# Altium footprint library CONN_TBLOCK_8P25to15P0.PcbLib: 118 footprints (part 5 of 8)
Each footprint in its own frame and in the unit in brackets; x right, y up, seen from the top. Pads: shape width x height; smd on the part's side, far side on the other; paste and mask are expansions set on the pad; w line width, h text height; cw(c..) or ccw(c..) is an arc to the next point about the centre after c.
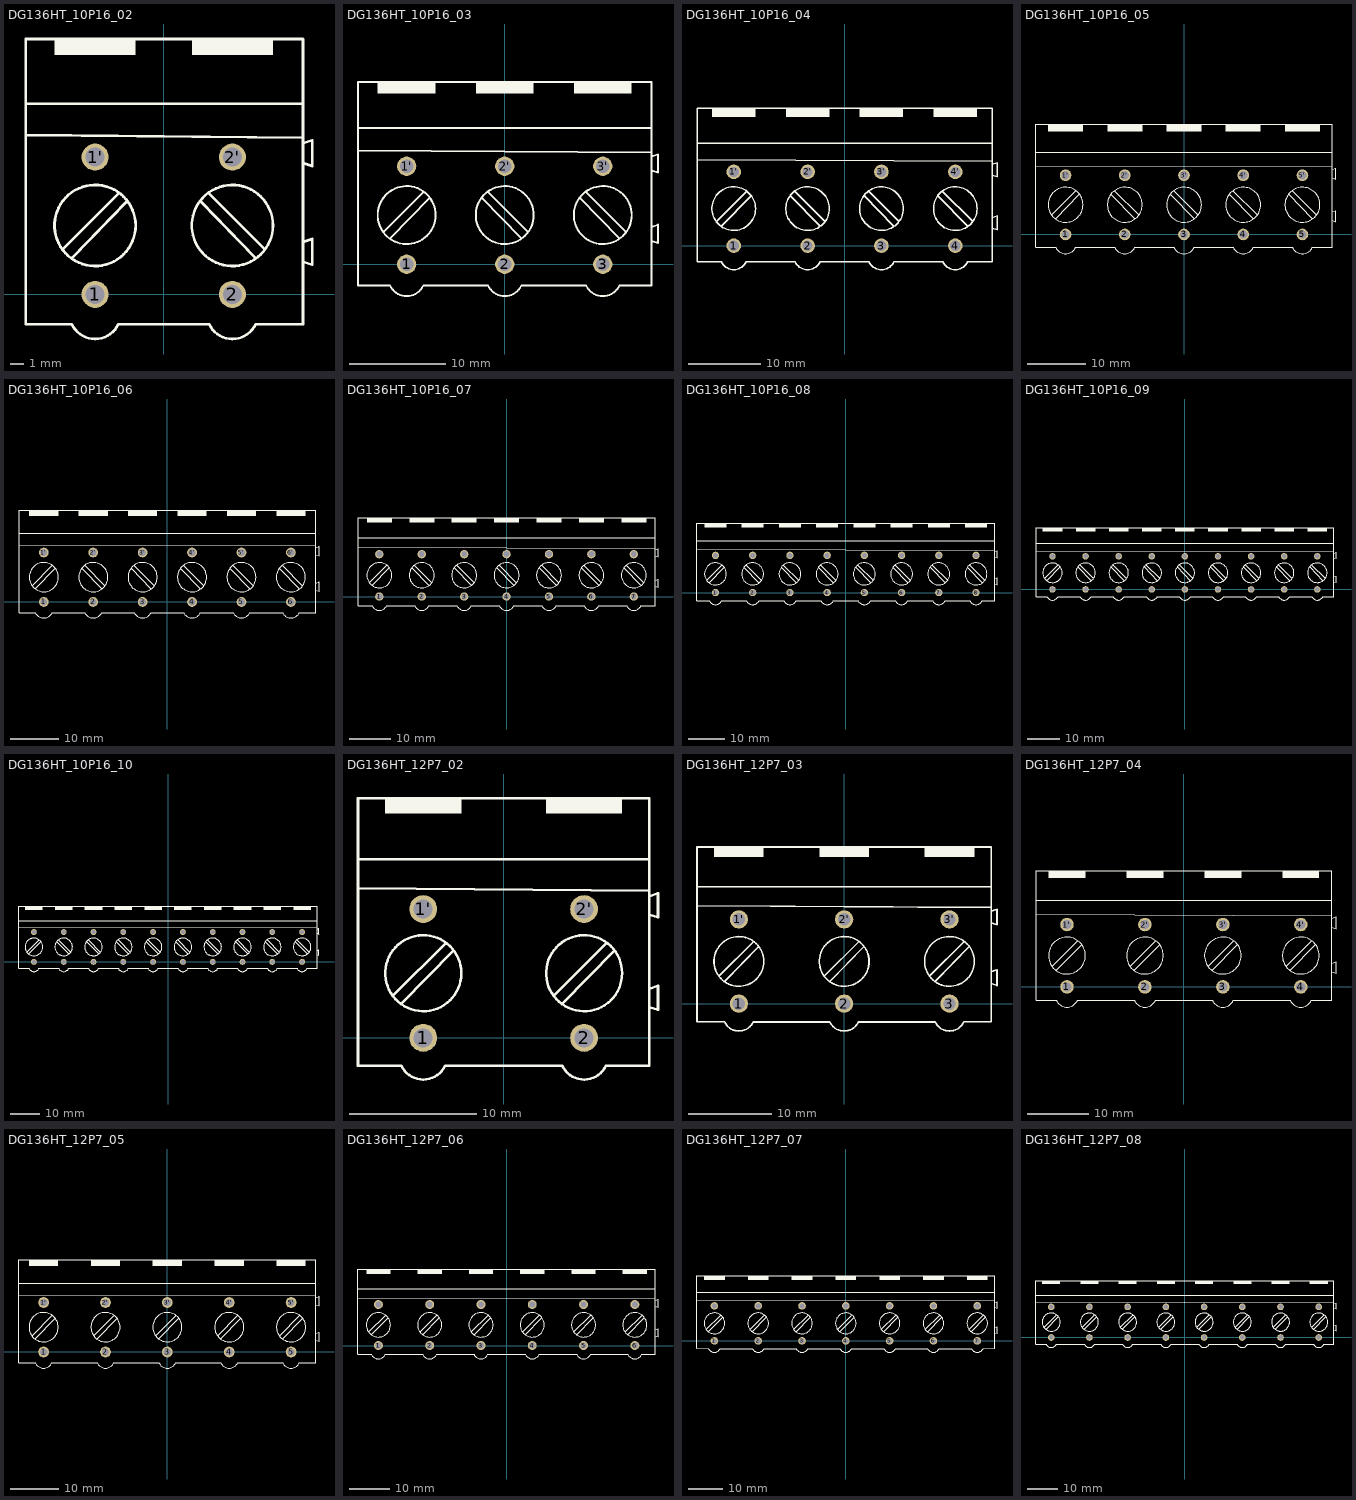
[diagram p4: the footprints below, top view; thin cyan lines are the x and y axes]

## DG136HT_10P16_02 [mm] "Terminal Block Screw, Pitch 10.16mm, 60A/300v"
height 30.8
pads (4):
  round 2 / inner round 2 / far side oval 2.8x4 hole 1.4: 1(-5.08,0) 1'(-5.08,10.16) 2(5.08,0) 2'(5.08,10.16)
Top Overlay:
  circle w0.2: c5.08,5.1 r3
  circle w0.2: c-5.08,5.1 r3
  region: 8.08,18.9 2.08,18.9 2.08,17.7 8.08,17.7
  rectangle: -8.08,17.7 -2.08,18.9
  lines w0.2: -10.2,11.8 10.3,11.6 ; -10.2,14.1 10.3,14.1 ; -7.455,3.355 -3.3,7.5 ; -6.797,2.697 -2.7,6.9 ; 2.7,6.9 6.797,2.697 ; 3.3,7.5 7.455,3.355 ; 10.308,2.424 10.98,2.2 10.98,4.1 10.308,3.876 ; 10.308,9.724 10.98,9.5 10.98,11.4 10.308,11.176 ; -10.2,-2.2 -6.802,-2.203 ccw(c-5.08,-1.4) -3.358,-2.203 3.358,-2.203 ccw(c5.08,-1.4) 6.802,-2.203 10.3,-2.2 10.3,18.9 -10.2,18.9 -10.2,-2.2
3D body "DG136HT-10.16-02P.stp": height 30.85, standoff -4.95, extent -10.185,-3.2 10.885,18.8

## DG136HT_10P16_03 [mm] "Terminal Block Screw, Pitch 10.16mm, 60A/300v"
height 29.3
pads (6):
  round 2 / inner round 2 / far side oval 2.8x4 hole 1.4: 1(-10.16,0) 1'(-10.16,10.16) 2(0,0) 2'(0,10.16) 3(10.16,0) 3'(10.16,10.16)
Top Overlay:
  circle w0.2: c-10.16,5.1 r3
  circle w0.2: c0,5.1 r3
  circle w0.2: c10.16,5.1 r3
  rectangle: -13.16,17.7 -7.16,18.9
  region: 3,18.9 -3,18.9 -3,17.7 3,17.7
  region: 13.16,18.9 7.16,18.9 7.16,17.7 13.16,17.7
  lines w0.2: -15.2,11.8 15.2,11.6 ; -15.2,14.1 15.2,14.1 ; -12.535,3.355 -8.38,7.5 ; -11.877,2.697 -7.78,6.9 ; -2.38,6.9 1.717,2.697 ; -1.78,7.5 2.375,3.355 ; 7.78,6.9 11.877,2.697 ; 8.38,7.5 12.535,3.355 ; 15.208,2.424 15.88,2.2 15.88,4.1 15.208,3.876 ; 15.208,9.724 15.88,9.5 15.88,11.4 15.208,11.176 ; -15.2,-2.2 -11.882,-2.203 ccw(c-10.16,-1.4) -8.438,-2.203 -1.722,-2.203 ccw(c0,-1.4) 1.722,-2.203 8.438,-2.203 ccw(c10.16,-1.4) 11.882,-2.203 15.2,-2.2 15.2,18.9 -15.2,18.9 -15.2,-2.2
3D body "DG136HT-10.16-03P.stp": height 30.85, standoff -4.95, extent -15.265,-3.2 15.965,18.8

## DG136HT_10P16_04 [mm] "Terminal Block Screw, Pitch 10.16mm, 60A/300v"
height 29.3
pads (8):
  round 2 / inner round 2 / far side oval 2.8x4 hole 1.4: 1(-15.24,0) 1'(-15.24,10.16) 2(-5.08,0) 2'(-5.08,10.16) 3(5.08,0) 3'(5.08,10.16) 4(15.24,0) 4'(15.24,10.16)
Top Overlay:
  circle w0.2: c-15.24,5.1 r3
  circle w0.2: c-5.08,5.1 r3
  circle w0.2: c5.08,5.1 r3
  circle w0.2: c15.24,5.1 r3
  rectangle: -18.24,17.7 -12.24,18.9
  region: -2.08,18.9 -8.08,18.9 -8.08,17.7 -2.08,17.7
  region: 8.08,18.9 2.08,18.9 2.08,17.7 8.08,17.7
  region: 18.24,18.9 12.24,18.9 12.24,17.7 18.24,17.7
  lines w0.2: -20.3,11.8 20.3,11.6 ; -20.3,14.1 20.3,14.1 ; -17.615,3.355 -13.46,7.5 ; -16.957,2.697 -12.86,6.9 ; -7.46,6.9 -3.363,2.697 ; -6.86,7.5 -2.705,3.355 ; 2.7,6.9 6.797,2.697 ; 3.3,7.5 7.455,3.355 ; 12.86,6.9 16.957,2.697 ; 13.46,7.5 17.615,3.355 ; 20.308,2.424 20.98,2.2 20.98,4.1 20.308,3.876 ; 20.308,9.724 20.98,9.5 20.98,11.4 20.308,11.176 ; -20.3,-2.2 -16.962,-2.203 ccw(c-15.24,-1.4) -13.518,-2.203 -6.802,-2.203 ccw(c-5.08,-1.4) -3.358,-2.203 3.358,-2.203 ccw(c5.08,-1.4) 6.802,-2.203 13.518,-2.203 ccw(c15.24,-1.4) 16.962,-2.203 20.3,-2.2 20.3,18.9 -20.3,18.9 -20.3,-2.2
3D body "DG136HT-10.16-02P.stp": height 30.85, standoff -4.95, extent -0.025,-3.2 21.045,18.8
3D body "DG136HT-10.16-02P.stp": height 30.85, standoff -4.95, extent -20.345,-3.2 0.725,18.8

## DG136HT_10P16_05 [mm] "Terminal Block Screw, Pitch 10.16mm, 60A/300v"
height 29.3
pads (10):
  round 2 / inner round 2 / far side oval 2.8x4 hole 1.4: 1(-20.32,0) 1'(-20.32,10.16) 2(-10.16,0) 2'(-10.16,10.16) 3(0,0) 3'(0,10.16) 4(10.16,0) 4'(10.16,10.16) 5(20.32,0) 5'(20.32,10.16)
Top Overlay:
  circle w0.2: c-20.32,5.1 r3
  circle w0.2: c-10.16,5.1 r3
  circle w0.2: c0,5.1 r3
  circle w0.2: c10.16,5.1 r3
  circle w0.2: c20.32,5.1 r3
  rectangle: -23.32,17.7 -17.32,18.9
  region: -7.16,18.9 -13.16,18.9 -13.16,17.7 -7.16,17.7
  region: 3,18.9 -3,18.9 -3,17.7 3,17.7
  region: 13.16,18.9 7.16,18.9 7.16,17.7 13.16,17.7
  region: 23.32,18.9 17.32,18.9 17.32,17.7 23.32,17.7
  lines w0.2: -25.4,11.8 25.4,11.6 ; -25.4,14.1 25.4,14.1 ; -22.695,3.355 -18.54,7.5 ; -22.037,2.697 -17.94,6.9 ; -12.54,6.9 -8.443,2.697 ; -11.94,7.5 -7.785,3.355 ; -2.38,6.9 1.717,2.697 ; -1.78,7.5 2.375,3.355 ; 7.78,6.9 11.877,2.697 ; 8.38,7.5 12.535,3.355 ; 17.94,6.9 22.037,2.697 ; 18.54,7.5 22.695,3.355 ; 25.408,2.424 26.08,2.2 26.08,4.1 25.408,3.876 ; 25.408,9.724 26.08,9.5 26.08,11.4 25.408,11.176 ; -25.4,-2.2 -22.042,-2.203 ccw(c-20.32,-1.4) -18.598,-2.203 -11.882,-2.203 ccw(c-10.16,-1.4) -8.438,-2.203 -1.722,-2.203 ccw(c0,-1.4) 1.722,-2.203 8.438,-2.203 ccw(c10.16,-1.4) 11.882,-2.203 18.598,-2.203 ccw(c20.32,-1.4) 22.042,-2.203 25.4,-2.2 25.4,18.9 -25.4,18.9 -25.4,-2.2
3D body "DG136HT-10.16-03P.stp": height 30.85, standoff -4.95, extent -5.105,-3.2 26.125,18.8
3D body "DG136HT-10.16-02P.stp": height 30.85, standoff -4.95, extent -25.425,-3.2 -4.355,18.8

## DG136HT_10P16_06 [mm] "Terminal Block Screw, Pitch 10.16mm, 60A/300v"
height 29.3
pads (12):
  round 2 / inner round 2 / far side oval 2.8x4 hole 1.4: 1(-25.4,0) 1'(-25.4,10.16) 2(-15.24,0) 2'(-15.24,10.16) 3(-5.08,0) 3'(-5.08,10.16) 4(5.08,0) 4'(5.08,10.16) 5(15.24,0) 5'(15.24,10.16) 6(25.4,0) 6'(25.4,10.16)
Top Overlay:
  circle w0.2: c25.4,5.1 r3
  circle w0.2: c15.24,5.1 r3
  circle w0.2: c5.08,5.1 r3
  circle w0.2: c-5.08,5.1 r3
  circle w0.2: c-15.24,5.1 r3
  circle w0.2: c-25.4,5.1 r3
  region: 28.4,18.9 22.4,18.9 22.4,17.7 28.4,17.7
  region: 18.24,18.9 12.24,18.9 12.24,17.7 18.24,17.7
  region: 8.08,18.9 2.08,18.9 2.08,17.7 8.08,17.7
  region: -2.08,18.9 -8.08,18.9 -8.08,17.7 -2.08,17.7
  region: -12.24,18.9 -18.24,18.9 -18.24,17.7 -12.24,17.7
  rectangle: -28.4,17.7 -22.4,18.9
  lines w0.2: -30.5,11.8 30.5,11.6 ; -30.5,14.1 30.5,14.1 ; -27.775,3.355 -23.62,7.5 ; -27.117,2.697 -23.02,6.9 ; -17.62,6.9 -13.523,2.697 ; -17.02,7.5 -12.865,3.355 ; -7.46,6.9 -3.363,2.697 ; -6.86,7.5 -2.705,3.355 ; 2.7,6.9 6.797,2.697 ; 3.3,7.5 7.455,3.355 ; 12.86,6.9 16.957,2.697 ; 13.46,7.5 17.615,3.355 ; 23.02,6.9 27.117,2.697 ; 23.62,7.5 27.775,3.355 ; 30.508,2.424 31.18,2.2 31.18,4.1 30.508,3.876 ; 30.508,9.724 31.18,9.5 31.18,11.4 30.508,11.176 ; -30.5,-2.2 -30.5,18.9 30.5,18.9 30.5,-2.2 27.122,-2.203 cw(c25.4,-1.4) 23.678,-2.203 16.962,-2.203 cw(c15.24,-1.4) 13.518,-2.203 6.802,-2.203 cw(c5.08,-1.4) 3.358,-2.203 -3.358,-2.203 cw(c-5.08,-1.4) -6.802,-2.203 -13.518,-2.203 cw(c-15.24,-1.4) -16.962,-2.203 -23.678,-2.203 cw(c-25.4,-1.4) -27.122,-2.203 -30.5,-2.2
3D body "DG136HT-10.16-03P.stp": height 30.85, standoff -4.95, extent -30.505,-3.2 0.725,18.8
3D body "DG136HT-10.16-03P.stp": height 30.85, standoff -4.95, extent -0.025,-3.2 31.205,18.8

## DG136HT_10P16_07 [mm] "Terminal Block Screw, Pitch 10.16mm, 60A/300v"
height 29.3
pads (14):
  round 2 / inner round 2 / far side oval 2.8x4 hole 1.4: 1(-30.48,0) 1'(-30.48,10.16) 2(-20.32,0) 2'(-20.32,10.16) 3(-10.16,0) 3'(-10.16,10.16) 4(0,0) 4'(0,10.16) 5(10.16,0) 5'(10.16,10.16) 6(20.32,0) 6'(20.32,10.16) 7(30.48,0) 7'(30.48,10.16)
Top Overlay:
  circle w0.2: c30.48,5.1 r3
  circle w0.2: c20.32,5.1 r3
  circle w0.2: c10.16,5.1 r3
  circle w0.2: c0,5.1 r3
  circle w0.2: c-10.16,5.1 r3
  circle w0.2: c-20.32,5.1 r3
  circle w0.2: c-30.48,5.1 r3
  region: 33.48,18.9 27.48,18.9 27.48,17.7 33.48,17.7
  region: 23.32,18.9 17.32,18.9 17.32,17.7 23.32,17.7
  region: 13.16,18.9 7.16,18.9 7.16,17.7 13.16,17.7
  region: 3,18.9 -3,18.9 -3,17.7 3,17.7
  region: -7.16,18.9 -13.16,18.9 -13.16,17.7 -7.16,17.7
  region: -17.32,18.9 -23.32,18.9 -23.32,17.7 -17.32,17.7
  rectangle: -33.48,17.7 -27.48,18.9
  lines w0.2: -35.6,11.8 35.6,11.6 ; -35.6,14.1 35.6,14.1 ; -32.855,3.355 -28.7,7.5 ; -32.197,2.697 -28.1,6.9 ; -22.7,6.9 -18.603,2.697 ; -22.1,7.5 -17.945,3.355 ; -12.54,6.9 -8.443,2.697 ; -11.94,7.5 -7.785,3.355 ; -2.38,6.9 1.717,2.697 ; -1.78,7.5 2.375,3.355 ; 7.78,6.9 11.877,2.697 ; 8.38,7.5 12.535,3.355 ; 17.94,6.9 22.037,2.697 ; 18.54,7.5 22.695,3.355 ; 28.1,6.9 32.197,2.697 ; 28.7,7.5 32.855,3.355 ; 35.608,2.424 36.28,2.2 36.28,4.1 35.608,3.876 ; 35.608,9.724 36.28,9.5 36.28,11.4 35.608,11.176 ; -35.6,-2.2 -35.6,18.9 35.6,18.9 35.6,-2.2 32.202,-2.203 cw(c30.48,-1.4) 28.758,-2.203 22.042,-2.203 cw(c20.32,-1.4) 18.598,-2.203 11.882,-2.203 cw(c10.16,-1.4) 8.438,-2.203 1.722,-2.203 cw(c0,-1.4) -1.722,-2.203 -8.438,-2.203 cw(c-10.16,-1.4) -11.882,-2.203 -18.598,-2.203 cw(c-20.32,-1.4) -22.042,-2.203 -28.758,-2.203 cw(c-30.48,-1.4) -32.202,-2.203 -35.6,-2.2
3D body "DG136HT-10.16-03P.stp": height 30.85, standoff -4.95, extent -15.265,-3.2 15.965,18.8
3D body "DG136HT-10.16-02P.stp": height 30.85, standoff -4.95, extent -35.585,-3.2 -14.515,18.8
3D body "DG136HT-10.16-02P.stp": height 30.85, standoff -4.95, extent 15.215,-3.2 36.285,18.8

## DG136HT_10P16_08 [mm] "Terminal Block Screw, Pitch 10.16mm, 60A/300v"
height 29.3
pads (16):
  round 2 / inner round 2 / far side oval 2.8x4 hole 1.4: 1(-35.56,0) 1'(-35.56,10.16) 2(-25.4,0) 2'(-25.4,10.16) 3(-15.24,0) 3'(-15.24,10.16) 4(-5.08,0) 4'(-5.08,10.16) 5(5.08,0) 5'(5.08,10.16) 6(15.24,0) 6'(15.24,10.16) 7(25.4,0) 7'(25.4,10.16) 8(35.56,0) 8'(35.56,10.16)
Top Overlay:
  circle w0.2: c-35.56,5.1 r3
  circle w0.2: c-25.4,5.1 r3
  circle w0.2: c-15.24,5.1 r3
  circle w0.2: c-5.08,5.1 r3
  circle w0.2: c5.08,5.1 r3
  circle w0.2: c15.24,5.1 r3
  circle w0.2: c25.4,5.1 r3
  circle w0.2: c35.56,5.1 r3
  rectangle: -38.56,17.7 -32.56,18.9
  region: -22.4,18.9 -28.4,18.9 -28.4,17.7 -22.4,17.7
  region: -12.24,18.9 -18.24,18.9 -18.24,17.7 -12.24,17.7
  region: -2.08,18.9 -8.08,18.9 -8.08,17.7 -2.08,17.7
  region: 8.08,18.9 2.08,18.9 2.08,17.7 8.08,17.7
  region: 18.24,18.9 12.24,18.9 12.24,17.7 18.24,17.7
  region: 28.4,18.9 22.4,18.9 22.4,17.7 28.4,17.7
  region: 38.56,18.9 32.56,18.9 32.56,17.7 38.56,17.7
  lines w0.2: -40.6,11.8 40.6,11.6 ; -40.6,14.1 40.6,14.1 ; -37.935,3.355 -33.78,7.5 ; -37.277,2.697 -33.18,6.9 ; -27.78,6.9 -23.683,2.697 ; -27.18,7.5 -23.025,3.355 ; -17.62,6.9 -13.523,2.697 ; -17.02,7.5 -12.865,3.355 ; -7.46,6.9 -3.363,2.697 ; -6.86,7.5 -2.705,3.355 ; 2.7,6.9 6.797,2.697 ; 3.3,7.5 7.455,3.355 ; 12.86,6.9 16.957,2.697 ; 13.46,7.5 17.615,3.355 ; 23.02,6.9 27.117,2.697 ; 23.62,7.5 27.775,3.355 ; 33.18,6.9 37.277,2.697 ; 33.78,7.5 37.935,3.355 ; 37.242,-2.203 40.6,-2.2 40.6,18.9 -40.6,18.9 -40.6,-2.2 -37.282,-2.203 ccw(c-35.56,-1.4) -33.838,-2.203 -27.122,-2.203 ccw(c-25.4,-1.4) -23.678,-2.203 -16.962,-2.203 ccw(c-15.24,-1.4) -13.518,-2.203 -6.802,-2.203 ccw(c-5.08,-1.4) -3.358,-2.203 3.358,-2.203 ccw(c5.08,-1.4) 6.802,-2.203 13.518,-2.203 ccw(c15.24,-1.4) 16.962,-2.203 23.678,-2.203 ccw(c25.4,-1.4) 27.122,-2.203 33.838,-2.203 ccw(c35.56,-1.4) 37.282,-2.203 ; 40.608,2.424 41.28,2.2 41.28,4.1 40.608,3.876 ; 40.608,9.724 41.28,9.5 41.28,11.4 40.608,11.176
3D body "DG136HT-10.16-03P.stp": height 30.85, standoff -4.95, extent 10.135,-3.2 41.365,18.8
3D body "DG136HT-10.16-02P.stp": height 30.85, standoff -4.95, extent -40.665,-3.2 -19.595,18.8
3D body "DG136HT-10.16-03P.stp": height 30.85, standoff -4.95, extent -20.345,-3.2 10.885,18.8

## DG136HT_10P16_09 [mm] "Terminal Block Screw, Pitch 10.16mm, 60A/300v"
height 29.3
pads (18):
  round 2 / inner round 2 / far side oval 2.8x4 hole 1.4: 1(-40.64,0) 1'(-40.64,10.16) 2(-30.48,0) 2'(-30.48,10.16) 3(-20.32,0) 3'(-20.32,10.16) 4(-10.16,0) 4'(-10.16,10.16) 5(0,0) 5'(0,10.16) 6(10.16,0) 6'(10.16,10.16) 7(20.32,0) 7'(20.32,10.16) 8(30.48,0) 8'(30.48,10.16) 9(40.64,0) 9'(40.64,10.16)
Top Overlay:
  circle w0.2: c40.64,5.1 r3
  circle w0.2: c30.48,5.1 r3
  circle w0.2: c20.32,5.1 r3
  circle w0.2: c10.16,5.1 r3
  circle w0.2: c0,5.1 r3
  circle w0.2: c-10.16,5.1 r3
  circle w0.2: c-20.32,5.1 r3
  circle w0.2: c-30.48,5.1 r3
  circle w0.2: c-40.64,5.1 r3
  region: 43.64,18.9 37.64,18.9 37.64,17.7 43.64,17.7
  region: 33.48,18.9 27.48,18.9 27.48,17.7 33.48,17.7
  region: 23.32,18.9 17.32,18.9 17.32,17.7 23.32,17.7
  region: 13.16,18.9 7.16,18.9 7.16,17.7 13.16,17.7
  region: 3,18.9 -3,18.9 -3,17.7 3,17.7
  region: -7.16,18.9 -13.16,18.9 -13.16,17.7 -7.16,17.7
  region: -17.32,18.9 -23.32,18.9 -23.32,17.7 -17.32,17.7
  region: -27.48,18.9 -33.48,18.9 -33.48,17.7 -27.48,17.7
  rectangle: -43.64,17.7 -37.64,18.9
  lines w0.2: -45.7,11.8 45.7,11.6 ; -45.7,14.1 45.7,14.1 ; -43.015,3.355 -38.86,7.5 ; -42.357,2.697 -38.26,6.9 ; -32.86,6.9 -28.763,2.697 ; -32.26,7.5 -28.105,3.355 ; -22.7,6.9 -18.603,2.697 ; -22.1,7.5 -17.945,3.355 ; -12.54,6.9 -8.443,2.697 ; -11.94,7.5 -7.785,3.355 ; -2.38,6.9 1.717,2.697 ; -1.78,7.5 2.375,3.355 ; 7.78,6.9 11.877,2.697 ; 8.38,7.5 12.535,3.355 ; 17.94,6.9 22.037,2.697 ; 18.54,7.5 22.695,3.355 ; 28.1,6.9 32.197,2.697 ; 28.7,7.5 32.855,3.355 ; 38.26,6.9 42.357,2.697 ; 38.86,7.5 43.015,3.355 ; 42.342,-2.203 45.7,-2.2 45.7,18.9 -45.7,18.9 -45.7,-2.2 -42.362,-2.203 ccw(c-40.64,-1.4) -38.918,-2.203 -32.202,-2.203 ccw(c-30.48,-1.4) -28.758,-2.203 -22.042,-2.203 ccw(c-20.32,-1.4) -18.598,-2.203 -11.882,-2.203 ccw(c-10.16,-1.4) -8.438,-2.203 -1.722,-2.203 ccw(c0,-1.4) 1.722,-2.203 8.438,-2.203 ccw(c10.16,-1.4) 11.882,-2.203 18.598,-2.203 ccw(c20.32,-1.4) 22.042,-2.203 28.758,-2.203 ccw(c30.48,-1.4) 32.202,-2.203 38.918,-2.203 ccw(c40.64,-1.4) 42.362,-2.203 ; 45.708,2.424 46.38,2.2 46.38,4.1 45.708,3.876 ; 45.708,9.724 46.38,9.5 46.38,11.4 45.708,11.176
3D body "DG136HT-10.16-03P.stp": height 30.85, standoff -4.95, extent 15.215,-3.2 46.445,18.8
3D body "DG136HT-10.16-03P.stp": height 30.85, standoff -4.95, extent -15.265,-3.2 15.965,18.8
3D body "DG136HT-10.16-03P.stp": height 30.85, standoff -4.95, extent -45.745,-3.2 -14.515,18.8

## DG136HT_10P16_10 [mm] "Terminal Block Screw, Pitch 10.16mm, 60A/300v"
height 29.3
pads (20):
  round 2 / inner round 2 / far side oval 2.8x4 hole 1.4: 1(-45.72,0) 1'(-45.72,10.16) 2(-35.56,0) 2'(-35.56,10.16) 3(-25.4,0) 3'(-25.4,10.16) 4(-15.24,0) 4'(-15.24,10.16) 5(-5.08,0) 5'(-5.08,10.16) 6(5.08,0) 6'(5.08,10.16) 7(15.24,0) 7'(15.24,10.16) 8(25.4,0) 8'(25.4,10.16) 9(35.56,0) 9'(35.56,10.16) 10(45.72,0) 10'(45.72,10.16)
Top Overlay:
  circle w0.2: c45.72,5.1 r3
  circle w0.2: c35.56,5.1 r3
  circle w0.2: c25.4,5.1 r3
  circle w0.2: c15.24,5.1 r3
  circle w0.2: c5.08,5.1 r3
  circle w0.2: c-5.08,5.1 r3
  circle w0.2: c-15.24,5.1 r3
  circle w0.2: c-25.4,5.1 r3
  circle w0.2: c-35.56,5.1 r3
  circle w0.2: c-45.72,5.1 r3
  region: 48.72,18.9 42.72,18.9 42.72,17.7 48.72,17.7
  region: 38.56,18.9 32.56,18.9 32.56,17.7 38.56,17.7
  region: 28.4,18.9 22.4,18.9 22.4,17.7 28.4,17.7
  region: 18.24,18.9 12.24,18.9 12.24,17.7 18.24,17.7
  region: 8.08,18.9 2.08,18.9 2.08,17.7 8.08,17.7
  region: -2.08,18.9 -8.08,18.9 -8.08,17.7 -2.08,17.7
  region: -12.24,18.9 -18.24,18.9 -18.24,17.7 -12.24,17.7
  region: -22.4,18.9 -28.4,18.9 -28.4,17.7 -22.4,17.7
  region: -32.56,18.9 -38.56,18.9 -38.56,17.7 -32.56,17.7
  rectangle: -48.72,17.7 -42.72,18.9
  lines w0.2: -50.8,11.8 50.8,11.6 ; -50.8,14.1 50.8,14.1 ; -48.095,3.355 -43.94,7.5 ; -47.437,2.697 -43.34,6.9 ; -37.94,6.9 -33.843,2.697 ; -37.34,7.5 -33.185,3.355 ; -27.78,6.9 -23.683,2.697 ; -27.18,7.5 -23.025,3.355 ; -17.62,6.9 -13.523,2.697 ; -17.02,7.5 -12.865,3.355 ; -7.46,6.9 -3.363,2.697 ; -6.86,7.5 -2.705,3.355 ; 2.7,6.9 6.797,2.697 ; 3.3,7.5 7.455,3.355 ; 12.86,6.9 16.957,2.697 ; 13.46,7.5 17.615,3.355 ; 23.02,6.9 27.117,2.697 ; 23.62,7.5 27.775,3.355 ; 33.18,6.9 37.277,2.697 ; 33.78,7.5 37.935,3.355 ; 43.34,6.9 47.437,2.697 ; 43.94,7.5 48.095,3.355 ; 50.808,2.424 51.48,2.2 51.48,4.1 50.808,3.876 ; 50.808,9.724 51.48,9.5 51.48,11.4 50.808,11.176 ; -50.8,-2.2 -50.8,18.9 50.8,18.9 50.8,-2.2 47.442,-2.203 cw(c45.72,-1.4) 43.998,-2.203 37.282,-2.203 cw(c35.56,-1.4) 33.838,-2.203 27.122,-2.203 cw(c25.4,-1.4) 23.678,-2.203 16.962,-2.203 cw(c15.24,-1.4) 13.518,-2.203 6.802,-2.203 cw(c5.08,-1.4) 3.358,-2.203 -3.358,-2.203 cw(c-5.08,-1.4) -6.802,-2.203 -13.518,-2.203 cw(c-15.24,-1.4) -16.962,-2.203 -23.678,-2.203 cw(c-25.4,-1.4) -27.122,-2.203 -33.838,-2.203 cw(c-35.56,-1.4) -37.282,-2.203 -43.998,-2.203 cw(c-45.72,-1.4) -47.442,-2.203 -50.8,-2.2
3D body "DG136HT-10.16-02P.stp": height 30.85, standoff -4.95, extent -50.825,-3.2 -29.755,18.8
3D body "DG136HT-10.16-03P.stp": height 30.85, standoff -4.95, extent -30.505,-3.2 0.725,18.8
3D body "DG136HT-10.16-02P.stp": height 30.85, standoff -4.95, extent -0.025,-3.2 21.045,18.8
3D body "DG136HT-10.16-03P.stp": height 30.85, standoff -4.95, extent 20.295,-3.2 51.525,18.8

## DG136HT_12P7_02 [mm] "Terminal Block Screw, Pitch 12.7mm, 60A/600v"
height 30.8
pads (4):
  round 2.2 / inner round 2.2 / far side oval 3x4 hole 1.5: 1(-6.35,0) 1'(-6.35,10.16) 2(6.35,0) 2'(6.35,10.16)
Top Overlay:
  circle w0.2: c-6.35,5.1 r3
  circle w0.2: c6.35,5.1 r3
  rectangle: -9.35,17.7 -3.35,18.9
  rectangle: 3.35,17.7 9.35,18.9
  lines w0.2: -11.5,11.8 11.5,11.6 ; -11.5,14.1 11.5,14.1 ; -8.725,3.355 -4.57,7.5 ; -8.072,-2.203 ccw(c-6.35,-1.4) -4.628,-2.203 4.628,-2.203 ccw(c6.35,-1.4) 8.072,-2.203 11.5,-2.2 11.5,18.9 -11.5,18.9 -11.5,-2.2 -8.072,-2.2 ; -8.067,2.697 -3.97,6.9 ; 3.975,3.355 8.13,7.5 ; 4.633,2.697 8.73,6.9 ; 11.508,2.424 12.18,2.2 12.18,4.1 11.508,3.876 ; 11.508,9.724 12.18,9.5 12.18,11.4 11.508,11.176
3D body "DG136HT-12.70-02P.stp": height 30.8, standoff -5, extent -11.425,-3.2 12.185,18.8

## DG136HT_12P7_03 [mm] "Terminal Block Screw, Pitch 12.7mm, 60A/600v"
height 30.8
pads (6):
  round 2.2 / inner round 2.2 / far side oval 3x4 hole 1.5: 1(-12.7,0) 1'(-12.7,10.16) 2(0,0) 2'(0,10.16) 3(12.7,0) 3'(12.7,10.16)
Top Overlay:
  circle w0.2: c-12.7,5.1 r3
  circle w0.2: c0,5.1 r3
  circle w0.2: c12.7,5.1 r3
  rectangle: -15.7,17.7 -9.7,18.9
  rectangle: -3,17.7 3,18.9
  rectangle: 9.7,17.7 15.7,18.9
  lines w0.2: -17.75,11.8 17.75,11.6 ; -17.75,14.1 17.75,14.1 ; -15.075,3.355 -10.92,7.5 ; -14.417,2.697 -10.32,6.9 ; -2.375,3.355 1.78,7.5 ; -1.717,2.697 2.38,6.9 ; 10.325,3.355 14.48,7.5 ; 10.983,2.697 15.08,6.9 ; 17.758,2.424 18.43,2.2 18.43,4.1 17.758,3.876 ; 17.758,9.724 18.43,9.5 18.43,11.4 17.758,11.176 ; -17.75,-2.2 -17.75,18.9 17.75,18.9 17.75,-2.2 14.422,-2.203 cw(c12.7,-1.4) 10.978,-2.203 1.722,-2.203 cw(c0,-1.4) -1.722,-2.203 -10.978,-2.203 cw(c-12.7,-1.4) -14.422,-2.203 -17.75,-2.2
3D body "DG136HT-12.70-03P.stp": height 30.8, standoff -5, extent -17.775,-3.2 18.535,18.8

## DG136HT_12P7_04 [mm] "Terminal Block Screw, Pitch 12.7mm, 60A/600v"
height 30.8
pads (8):
  round 2.2 / inner round 2.2 / far side oval 3x4 hole 1.5: 1(-19.05,0) 1'(-19.05,10.16) 2(-6.35,0) 2'(-6.35,10.16) 3(6.35,0) 3'(6.35,10.16) 4(19.05,0) 4'(19.05,10.16)
Top Overlay:
  circle w0.2: c19.05,5.1 r3
  circle w0.2: c6.35,5.1 r3
  circle w0.2: c-6.35,5.1 r3
  circle w0.2: c-19.05,5.1 r3
  rectangle: 16.05,17.7 22.05,18.9
  rectangle: 3.35,17.7 9.35,18.9
  rectangle: -9.35,17.7 -3.35,18.9
  rectangle: -22.05,17.7 -16.05,18.9
  lines w0.2: -24.1,11.8 24.1,11.6 ; -24.1,14.1 24.1,14.1 ; -21.425,3.355 -17.27,7.5 ; -20.767,2.697 -16.67,6.9 ; -8.725,3.355 -4.57,7.5 ; -8.067,2.697 -3.97,6.9 ; 3.975,3.355 8.13,7.5 ; 4.633,2.697 8.73,6.9 ; 16.675,3.355 20.83,7.5 ; 17.333,2.697 21.43,6.9 ; 24.108,2.424 24.78,2.2 24.78,4.1 24.108,3.876 ; 24.108,9.724 24.78,9.5 24.78,11.4 24.108,11.176 ; -24.1,-2.2 -20.772,-2.203 ccw(c-19.05,-1.4) -17.328,-2.203 -8.072,-2.203 ccw(c-6.35,-1.4) -4.628,-2.203 4.628,-2.203 ccw(c6.35,-1.4) 8.072,-2.203 17.328,-2.203 ccw(c19.05,-1.4) 20.772,-2.203 24.1,-2.2 24.1,18.9 -24.1,18.9 -24.1,-2.2
3D body "DG136HT-12.70-02P.stp": height 30.8, standoff -5, extent -24.125,-3.2 -0.515,18.8
3D body "DG136HT-12.70-02P.stp": height 30.8, standoff -5, extent 1.275,-3.2 24.885,18.8

## DG136HT_12P7_05 [mm] "Terminal Block Screw, Pitch 12.7mm, 60A/600v"
height 30.8
pads (10):
  round 2.2 / inner round 2.2 / far side oval 3x4 hole 1.5: 1(-25.4,0) 1'(-25.4,10.16) 2(-12.7,0) 2'(-12.7,10.16) 3(0,0) 3'(0,10.16) 4(12.7,0) 4'(12.7,10.16) 5(25.4,0) 5'(25.4,10.16)
Top Overlay:
  circle w0.2: c25.4,5.1 r3
  circle w0.2: c12.7,5.1 r3
  circle w0.2: c0,5.1 r3
  circle w0.2: c-12.7,5.1 r3
  circle w0.2: c-25.4,5.1 r3
  rectangle: 22.4,17.7 28.4,18.9
  rectangle: 9.7,17.7 15.7,18.9
  rectangle: -3,17.7 3,18.9
  rectangle: -15.7,17.7 -9.7,18.9
  rectangle: -28.4,17.7 -22.4,18.9
  lines w0.2: -30.45,11.8 30.45,11.6 ; -30.45,14.1 30.45,14.1 ; -27.775,3.355 -23.62,7.5 ; -27.117,2.697 -23.02,6.9 ; -15.075,3.355 -10.92,7.5 ; -14.417,2.697 -10.32,6.9 ; -2.375,3.355 1.78,7.5 ; -1.717,2.697 2.38,6.9 ; 10.325,3.355 14.48,7.5 ; 10.983,2.697 15.08,6.9 ; 23.025,3.355 27.18,7.5 ; 23.683,2.697 27.78,6.9 ; 30.458,2.424 31.13,2.2 31.13,4.1 30.458,3.876 ; 30.458,9.724 31.13,9.5 31.13,11.4 30.458,11.176 ; -30.45,-2.2 -27.122,-2.203 ccw(c-25.4,-1.4) -23.678,-2.203 -14.422,-2.203 ccw(c-12.7,-1.4) -10.978,-2.203 -1.722,-2.203 ccw(c0,-1.4) 1.722,-2.203 10.978,-2.203 ccw(c12.7,-1.4) 14.422,-2.203 23.678,-2.203 ccw(c25.4,-1.4) 27.122,-2.203 30.45,-2.2 30.45,18.9 -30.45,18.9 -30.45,-2.2
3D body "DG136HT-12.70-02P.stp": height 30.8, standoff -5, extent -30.475,-3.2 -6.865,18.8
3D body "DG136HT-12.70-03P.stp": height 30.8, standoff -5, extent -5.075,-3.2 31.235,18.8

## DG136HT_12P7_06 [mm] "Terminal Block Screw, Pitch 12.7mm, 60A/600v"
height 30.8
pads (12):
  round 2.2 / inner round 2.2 / far side oval 3x4 hole 1.5: 1(-31.75,0) 1'(-31.75,10.16) 2(-19.05,0) 2'(-19.05,10.16) 3(-6.35,0) 3'(-6.35,10.16) 4(6.35,0) 4'(6.35,10.16) 5(19.05,0) 5'(19.05,10.16) 6(31.75,0) 6'(31.75,10.16)
Top Overlay:
  circle w0.2: c-31.75,5.1 r3
  circle w0.2: c-19.05,5.1 r3
  circle w0.2: c-6.35,5.1 r3
  circle w0.2: c6.35,5.1 r3
  circle w0.2: c19.05,5.1 r3
  circle w0.2: c31.75,5.1 r3
  rectangle: -34.75,17.7 -28.75,18.9
  rectangle: -22.05,17.7 -16.05,18.9
  rectangle: -9.35,17.7 -3.35,18.9
  rectangle: 3.35,17.7 9.35,18.9
  rectangle: 16.05,17.7 22.05,18.9
  rectangle: 28.75,17.7 34.75,18.9
  lines w0.2: -36.8,11.8 36.8,11.6 ; -36.8,14.1 36.8,14.1 ; -34.125,3.355 -29.97,7.5 ; -33.467,2.697 -29.37,6.9 ; -21.425,3.355 -17.27,7.5 ; -20.767,2.697 -16.67,6.9 ; -8.725,3.355 -4.57,7.5 ; -8.067,2.697 -3.97,6.9 ; 3.975,3.355 8.13,7.5 ; 4.633,2.697 8.73,6.9 ; 16.675,3.355 20.83,7.5 ; 17.333,2.697 21.43,6.9 ; 29.375,3.355 33.53,7.5 ; 30.033,2.697 34.13,6.9 ; 36.808,2.424 37.48,2.2 37.48,4.1 36.808,3.876 ; 36.808,9.724 37.48,9.5 37.48,11.4 36.808,11.176 ; -36.8,-2.2 -36.8,18.9 36.8,18.9 36.8,-2.2 33.472,-2.203 cw(c31.75,-1.4) 30.028,-2.203 20.772,-2.203 cw(c19.05,-1.4) 17.328,-2.203 8.072,-2.203 cw(c6.35,-1.4) 4.628,-2.203 -4.628,-2.203 cw(c-6.35,-1.4) -8.072,-2.203 -17.328,-2.203 cw(c-19.05,-1.4) -20.772,-2.203 -30.028,-2.203 cw(c-31.75,-1.4) -33.472,-2.203 -36.8,-2.2
3D body "DG136HT-12.70-03P.stp": height 30.8, standoff -5, extent 1.275,-3.2 37.585,18.8
3D body "DG136HT-12.70-03P.stp": height 30.8, standoff -5, extent -36.825,-3.2 -0.515,18.8

## DG136HT_12P7_07 [mm] "Terminal Block Screw, Pitch 12.7mm, 60A/600v"
height 30.8
pads (14):
  round 2.2 / inner round 2.2 / far side oval 3x4 hole 1.5: 1(-38.1,0) 1'(-38.1,10.16) 2(-25.4,0) 2'(-25.4,10.16) 3(-12.7,0) 3'(-12.7,10.16) 4(0,0) 4'(0,10.16) 5(12.7,0) 5'(12.7,10.16) 6(25.4,0) 6'(25.4,10.16) 7(38.1,0) 7'(38.1,10.16)
Top Overlay:
  circle w0.2: c-38.1,5.1 r3
  circle w0.2: c-25.4,5.1 r3
  circle w0.2: c-12.7,5.1 r3
  circle w0.2: c0,5.1 r3
  circle w0.2: c12.7,5.1 r3
  circle w0.2: c25.4,5.1 r3
  circle w0.2: c38.1,5.1 r3
  rectangle: -41.1,17.7 -35.1,18.9
  rectangle: -28.4,17.7 -22.4,18.9
  rectangle: -15.7,17.7 -9.7,18.9
  rectangle: -3,17.7 3,18.9
  rectangle: 9.7,17.7 15.7,18.9
  rectangle: 22.4,17.7 28.4,18.9
  rectangle: 35.1,17.7 41.1,18.9
  lines w0.2: -43.15,11.8 43.15,11.6 ; -43.15,14.1 43.15,14.1 ; -40.475,3.355 -36.32,7.5 ; -39.817,2.697 -35.72,6.9 ; -27.775,3.355 -23.62,7.5 ; -27.117,2.697 -23.02,6.9 ; -15.075,3.355 -10.92,7.5 ; -14.417,2.697 -10.32,6.9 ; -2.375,3.355 1.78,7.5 ; -1.717,2.697 2.38,6.9 ; 10.325,3.355 14.48,7.5 ; 10.983,2.697 15.08,6.9 ; 23.025,3.355 27.18,7.5 ; 23.683,2.697 27.78,6.9 ; 35.725,3.355 39.88,7.5 ; 36.383,2.697 40.48,6.9 ; 43.158,2.424 43.83,2.2 43.83,4.1 43.158,3.876 ; 43.158,9.724 43.83,9.5 43.83,11.4 43.158,11.176 ; -43.15,-2.2 -43.15,18.9 43.15,18.9 43.15,-2.2 39.822,-2.203 cw(c38.1,-1.4) 36.378,-2.203 27.122,-2.203 cw(c25.4,-1.4) 23.678,-2.203 14.422,-2.203 cw(c12.7,-1.4) 10.978,-2.203 1.722,-2.203 cw(c0,-1.4) -1.722,-2.203 -10.978,-2.203 cw(c-12.7,-1.4) -14.422,-2.203 -23.678,-2.203 cw(c-25.4,-1.4) -27.122,-2.203 -36.378,-2.203 cw(c-38.1,-1.4) -39.822,-2.203 -43.15,-2.2
3D body "DG136HT-12.70-02P.stp": height 30.8, standoff -5, extent 20.325,-3.2 43.935,18.8
3D body "DG136HT-12.70-02P.stp": height 30.8, standoff -5, extent -43.175,-3.2 -19.565,18.8
3D body "DG136HT-12.70-03P.stp": height 30.8, standoff -5, extent -17.775,-3.2 18.535,18.8

## DG136HT_12P7_08 [mm] "Terminal Block Screw, Pitch 12.7mm, 60A/600v"
height 30.8
pads (16):
  round 2.2 / inner round 2.2 / far side oval 3x4 hole 1.5: 1(-44.45,0) 1'(-44.45,10.16) 2(-31.75,0) 2'(-31.75,10.16) 3(-19.05,0) 3'(-19.05,10.16) 4(-6.35,0) 4'(-6.35,10.16) 5(6.35,0) 5'(6.35,10.16) 6(19.05,0) 6'(19.05,10.16) 7(31.75,0) 7'(31.75,10.16) 8(44.45,0) 8'(44.45,10.16)
Top Overlay:
  circle w0.2: c44.45,5.1 r3
  circle w0.2: c31.75,5.1 r3
  circle w0.2: c19.05,5.1 r3
  circle w0.2: c6.35,5.1 r3
  circle w0.2: c-6.35,5.1 r3
  circle w0.2: c-19.05,5.1 r3
  circle w0.2: c-31.75,5.1 r3
  circle w0.2: c-44.45,5.1 r3
  rectangle: 41.45,17.7 47.45,18.9
  rectangle: 28.75,17.7 34.75,18.9
  rectangle: 16.05,17.7 22.05,18.9
  rectangle: 3.35,17.7 9.35,18.9
  rectangle: -9.35,17.7 -3.35,18.9
  rectangle: -22.05,17.7 -16.05,18.9
  rectangle: -34.75,17.7 -28.75,18.9
  rectangle: -47.45,17.7 -41.45,18.9
  lines w0.2: -49.5,11.8 49.5,11.6 ; -49.5,14.1 49.5,14.1 ; -46.825,3.355 -42.67,7.5 ; -46.167,2.697 -42.07,6.9 ; -34.125,3.355 -29.97,7.5 ; -33.467,2.697 -29.37,6.9 ; -21.425,3.355 -17.27,7.5 ; -20.767,2.697 -16.67,6.9 ; -8.725,3.355 -4.57,7.5 ; -8.067,2.697 -3.97,6.9 ; 3.975,3.355 8.13,7.5 ; 4.633,2.697 8.73,6.9 ; 16.675,3.355 20.83,7.5 ; 17.333,2.697 21.43,6.9 ; 29.375,3.355 33.53,7.5 ; 30.033,2.697 34.13,6.9 ; 42.075,3.355 46.23,7.5 ; 42.733,2.697 46.83,6.9 ; 49.508,2.424 50.18,2.2 50.18,4.1 49.508,3.876 ; 49.508,9.724 50.18,9.5 50.18,11.4 49.508,11.176 ; -49.5,-2.2 -46.172,-2.203 ccw(c-44.45,-1.4) -42.728,-2.203 -33.472,-2.203 ccw(c-31.75,-1.4) -30.028,-2.203 -20.772,-2.203 ccw(c-19.05,-1.4) -17.328,-2.203 -8.072,-2.203 ccw(c-6.35,-1.4) -4.628,-2.203 4.628,-2.203 ccw(c6.35,-1.4) 8.072,-2.203 17.328,-2.203 ccw(c19.05,-1.4) 20.772,-2.203 30.028,-2.203 ccw(c31.75,-1.4) 33.472,-2.203 42.728,-2.203 ccw(c44.45,-1.4) 46.172,-2.203 49.5,-2.2 49.5,18.9 -49.5,18.9 -49.5,-2.2
3D body "DG136HT-12.70-03P.stp": height 30.8, standoff -5, extent -24.125,-3.2 12.185,18.8
3D body "DG136HT-12.70-02P.stp": height 30.8, standoff -5, extent -49.525,-3.2 -25.915,18.8
3D body "DG136HT-12.70-03P.stp": height 30.8, standoff -5, extent 13.975,-3.2 50.285,18.8